# Altium footprint library parts.PCBLIB: 94 footprints (part 1 of 6)
Each footprint in its own frame and in the unit in brackets; x right, y up, seen from the top. Pads: shape width x height; smd on the part's side, far side on the other; paste and mask are expansions set on the pad; w line width, h text height; cw(c..) or ccw(c..) is an arc to the next point about the centre after c.
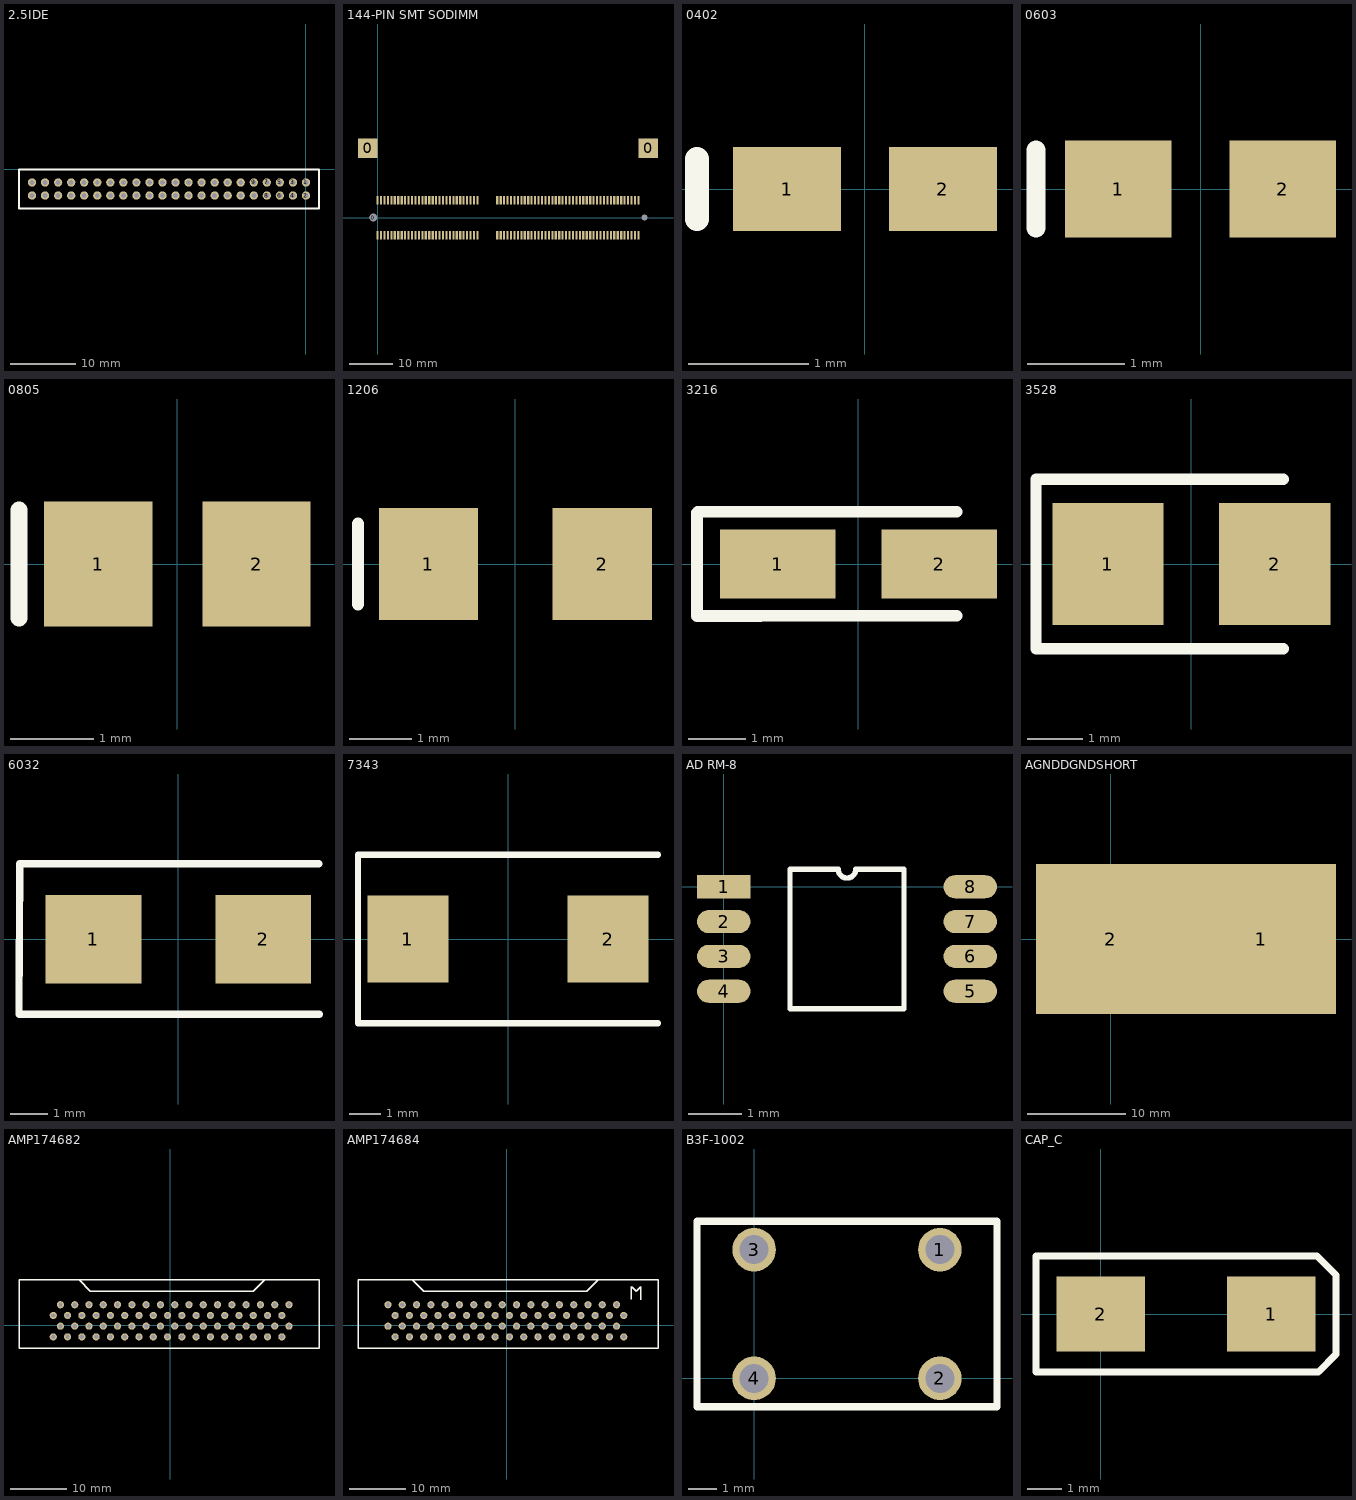
[diagram p0: the footprints below, top view; thin cyan lines are the x and y axes]

## 2.5IDE [mm]
pads (44):
  round 1.27 hole 0.762: 1(0,-2) 2(0,-4) 3(-2,-2) 4(-2,-4) 5(-4,-2) 6(-4,-4) 7(-6,-2) 8(-6,-4) 9(-8,-2) 10(-8,-4) 11(-10,-2) 12(-10,-4) 13(-12,-2) 14(-12,-4) 15(-14,-2) 16(-14,-4) 17(-16,-2) 18(-16,-4) 19(-18,-2) 20(-18,-4) 21(-20,-2) 22(-20,-4) 23(-22,-2) 24(-22,-4) 25(-24,-2) 26(-24,-4) 27(-26,-2) 28(-26,-4) 29(-28,-2) 30(-28,-4) 31(-30,-2) 32(-30,-4) 33(-32,-2) 34(-32,-4) 35(-34,-2) 36(-34,-4) 37(-36,-2) 38(-36,-4) 39(-38,-2) 40(-38,-4) 41(-40,-2) 42(-40,-4) 43(-42,-2) 44(-42,-4)
TopOverlay:
  lines w0.254: -44,-6 2,-6 2,0 -44,0 -44,-6

## 144-PIN SMT SODIMM [mm] "144-PIN SODIMM  socket, MOLEX 54142-1440"
pads (148):
  rect 4.5x4.6 smd: 0(-2.25,16.15) 0(62.85,16.15)
  round 1.7 hole 1.8: 0(-1,0.05)
  round 1.2 hole 1.4: 0(62,0.05)
  rect 0.5x2 smd: 1(0,-4.1) 2(0,4.1) 3(0.8,-4.1) 4(0.8,4.1) 5(1.6,-4.1) 6(1.6,4.1) 7(2.4,-4.1) 8(2.4,4.1) 9(3.2,-4.1) 10(3.2,4.1) 11(4,-4.1) 12(4,4.1) 13(4.8,-4.1) 14(4.8,4.1) 15(5.6,-4.1) 16(5.6,4.1) 17(6.4,-4.1) 18(6.4,4.1) 19(7.2,-4.1) 20(7.2,4.1) 21(8,-4.1) 22(8,4.1) 23(8.8,-4.1) 24(8.8,4.1) 25(9.6,-4.1) 26(9.6,4.1) 27(10.4,-4.1) 28(10.4,4.1) 29(11.2,-4.1) 30(11.2,4.1) 31(12,-4.1) 32(12,4.1) 33(12.8,-4.1) 34(12.8,4.1) 35(13.6,-4.1) 36(13.6,4.1) 37(14.4,-4.1) 38(14.4,4.1) 39(15.2,-4.1) 40(15.2,4.1) 41(16,-4.1) 42(16,4.1) 43(16.8,-4.1) 44(16.8,4.1) 45(17.6,-4.1) 46(17.6,4.1) 47(18.4,-4.1) 48(18.4,4.1) 49(19.2,-4.1) 50(19.2,4.1) 51(20,-4.1) 52(20,4.1) 53(20.8,-4.1) 54(20.8,4.1) 55(21.6,-4.1) 56(21.6,4.1) 57(22.4,-4.1) 58(22.4,4.1) 59(23.2,-4.1) 60(23.2,4.1) 61(27.8,-4.1) 62(27.8,4.1) 63(28.6,-4.1) 64(28.6,4.1) 65(29.4,-4.1) 66(29.4,4.1) 67(30.2,-4.1) 68(30.2,4.1) 69(31,-4.1) 70(31,4.1) 71(31.8,-4.1) 72(31.8,4.1) 73(32.6,-4.1) 74(32.6,4.1) 75(33.4,-4.1) 76(33.4,4.1) 77(34.2,-4.1) 78(34.2,4.1) 79(35,-4.1) 80(35,4.1) 81(35.8,-4.1) 82(35.8,4.1) 83(36.6,-4.1) 84(36.6,4.1) 85(37.4,-4.1) 86(37.4,4.1) 87(38.2,-4.1) 88(38.2,4.1) 89(39,-4.1) 90(39,4.1) 91(39.8,-4.1) 92(39.8,4.1) 93(40.6,-4.1) 94(40.6,4.1) 95(41.4,-4.1) 96(41.4,4.1) 97(42.2,-4.1) 98(42.2,4.1) 99(43,-4.1) 100(43,4.1) 101(43.8,-4.1) 102(43.8,4.1) 103(44.6,-4.1) 104(44.6,4.1) 105(45.4,-4.1) 106(45.4,4.1) 107(46.2,-4.1) 108(46.2,4.1) 109(47,-4.1) 110(47,4.1) 111(47.8,-4.1) 112(47.8,4.1) 113(48.6,-4.1) 114(48.6,4.1) 115(49.4,-4.1) 116(49.4,4.1) 117(50.2,-4.1) 118(50.2,4.1) 119(51,-4.1) 120(51,4.1) 121(51.8,-4.1) 122(51.8,4.1) 123(52.6,-4.1) 124(52.6,4.1) 125(53.4,-4.1) 126(53.4,4.1) 127(54.2,-4.1) 128(54.2,4.1) 129(55,-4.1) 130(55,4.1) 131(55.8,-4.1) 132(55.8,4.1) 133(56.6,-4.1) 134(56.6,4.1) 135(57.4,-4.1) 136(57.4,4.1) 137(58.2,-4.1) 138(58.2,4.1) 139(59,-4.1) 140(59,4.1) 141(59.8,-4.1) 142(59.8,4.1) 143(60.6,-4.1) 144(60.6,4.1)

## 0402 [mm] "Standard-sized 0402 Passive"
pads (2):
  rect 0.9x0.7 smd: 1(-0.65,0) 2(0.65,0)
TopOverlay:
  lines w0.2: -1.4,-0.25 -1.4,0.25

## 0603 [mm] "Standard-sized 0603 Passive"
pads (2):
  rect 1.1x1 smd: 1(-0.85,0) 2(0.85,0)
TopOverlay:
  lines w0.2: -1.7,-0.4 -1.7,0.4

## 0805 [mm] "Standard-sized 0805 Passive"
pads (2):
  rect 1.3x1.5 smd: 1(-0.95,0) 2(0.95,0)
TopOverlay:
  lines w0.2: -1.9,-0.65 -1.9,0.65

## 1206 [mm] "Standard-sized 1206 Passive"
pads (2):
  rect 1.6x1.8 smd: 1(-1.4,0) 2(1.4,0)
TopOverlay:
  lines w0.2: -2.535,-0.65 -2.535,0.65

## 3216 [mm] "Standard-Sized 3216 Polarized Leadless Cap"
pads (2):
  rect 2x1.2 smd: 1(-1.4,0) 2(1.4,0)
TopOverlay:
  lines w0.2: -2.782,0.901 1.7,0.901 ; -1.7,-0.899 1.7,-0.899
  lines w0.203: -2.794,-0.899 -1.7,-0.899 ; -2.794,-0.889 -2.794,0.889 -2.782,0.901

## 3528 [mm] "Standard-Sized 3528 Polarized Leadless Cap"
pads (2):
  rect 2x2.2 smd: 1(-1.5,0) 2(1.5,0)
TopOverlay:
  lines w0.203: -2.794,-1.524 1.651,-1.524 ; -2.794,-1.5 -2.794,1.5 ; -2.794,1.524 1.651,1.524

## 6032 [mm] "Standard-Sized 7343 Polarized Leadless Cap"
pads (2):
  rect 2.6x2.4 smd: 1(-2.3,0) 2(2.3,0)
TopOverlay:
  lines w0.203: -4.318,-2.032 -4.304,2.046 3.8,2.046 ; -4.294,-2.032 3.81,-2.032

## 7343 [mm] "Standard-Sized 7343 Polarized Leadless Cap"
pads (2):
  rect 2.6x2.8 smd: 1(-3.2,0) 2(3.2,0)
TopOverlay:
  lines w0.203: 4.8,-2.7 -4.8,-2.7 -4.8,2.7 4.8,2.7

## AD RM-8 [mm]
pads (8):
  rect 1x0.432 smd: 1(0,0)
  oval 1x0.432 smd: 2(0,-0.65) 3(0,-1.3) 4(0,-1.95) 5(4.6,-1.95) 6(4.6,-1.3) 7(4.6,-0.65) 8(4.6,0)
TopOverlay:
  lines w0.1: 1.235,-2.275 3.365,-2.275 3.365,0.325 2.462,0.325 cw(c2.3,0.325) 2.138,0.325 1.235,0.325 1.235,-2.275

## AGNDDGNDSHORT [mm]
pads (2):
  rect 15.24x15.24 smd: 1(15.26,0) 2(0,0)

## AMP174682 [mil]
pads (68):
  round 50 hole 30: 1(-820,-80) 2(-770,-5) 3(-720,-80) 4(-670,-5) 5(-620,-80) 6(-570,-5) 7(-520,-80) 8(-470,-5) 9(-420,-80) 10(-370,-5) 11(-320,-80) 12(-270,-5) 13(-220,-80) 14(-170,-5) 15(-120,-80) 16(-70,-5) 17(-20,-80) 18(30,-5) 19(80,-80) 20(130,-5) 21(180,-80) 22(230,-5) 23(280,-80) 24(330,-5) 25(380,-80) 26(430,-5) 27(480,-80) 28(530,-5) 29(580,-80) 30(630,-5) 31(680,-80) 32(730,-5) 33(780,-80) 34(830,-5) 35(-820,70) 36(-770,145) 37(-720,70) 38(-670,145) 39(-620,70) 40(-570,145) 41(-520,70) 42(-470,145) 43(-420,70) 44(-370,145) 45(-320,70) 46(-270,145) 47(-220,70) 48(-170,145) 49(-120,70) 50(-70,145) 51(-20,70) 52(30,145) 53(80,70) 54(130,145) 55(180,70) 56(230,145) 57(280,70) 58(330,145) 59(380,70) 60(430,145) 61(480,70) 62(530,145) 63(580,70) 64(630,145) 65(680,70) 66(730,145) 67(780,70) 68(830,145)
TopOverlay:
  lines w10: -640,320 -560,240 580,240 660,320 ; -1060,-160 1040,-160 1040,-140 1040,320 -1060,320 -1060,-160

## AMP174684 [mil]
pads (68):
  round 50 hole 30: 1(820,-80) 2(770,-5) 3(720,-80) 4(670,-5) 5(620,-80) 6(570,-5) 7(520,-80) 8(470,-5) 9(420,-80) 10(370,-5) 11(320,-80) 12(270,-5) 13(220,-80) 14(170,-5) 15(120,-80) 16(70,-5) 17(20,-80) 18(-30,-5) 19(-80,-80) 20(-130,-5) 21(-180,-80) 22(-230,-5) 23(-280,-80) 24(-330,-5) 25(-380,-80) 26(-430,-5) 27(-480,-80) 28(-530,-5) 29(-580,-80) 30(-630,-5) 31(-680,-80) 32(-730,-5) 33(-780,-80) 34(-830,-5) 35(820,70) 36(770,145) 37(720,70) 38(670,145) 39(620,70) 40(570,145) 41(520,70) 42(470,145) 43(420,70) 44(370,145) 45(320,70) 46(270,145) 47(220,70) 48(170,145) 49(120,70) 50(70,145) 51(20,70) 52(-30,145) 53(-80,70) 54(-130,145) 55(-180,70) 56(-230,145) 57(-280,70) 58(-330,145) 59(-380,70) 60(-430,145) 61(-480,70) 62(-530,145) 63(-580,70) 64(-630,145) 65(-680,70) 66(-730,145) 67(-780,70) 68(-830,145)
TopOverlay:
  lines w10: -660,320 -580,240 560,240 640,320 ; 874,182 874,271 877,268 881,268 909,240 939,270 939,181 938,180 ; -1040,-160 -1040,-140 -1040,320 1060,320 1060,-160 -1040,-160

## B3F-1002 [mil]
pads (4):
  round 60 hole 40: 1(255.91,177.16) 2(255.91,0) 3(0,177.16) 4(0,0)
TopOverlay:
  lines w10: -78.74,-39.37 -78.74,216.53 334.65,216.53 334.65,-39.37 -78.74,-39.37

## CAP_C [mm]
pads (2):
  rect 2.6x2.2 smd: 1(5,0) 2(0,0)
TopOverlay:
  lines w0.2: -1.9,-1.7 -1.9,1.7
  lines w0.203: -1.9,-1.7 6.38,-1.7 6.9,-1.18 6.9,1.14 6.34,1.7 ; -1.9,1.7 6.34,1.7 ; 5.05,1.7 6.34,1.7